# Altium integrated library RKEF400.IntLib: 1 symbol
Pins are listed as number, name and electrical type; pins without a type are passive.

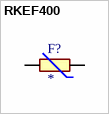
[diagram p0: symbol RKEF400]

## RKEF400
designator F?
PTC Resettable Fuse 4A(hold) 8A(trip) 60V 40A 3.7W 24s 0.014Ohm Radial 21 X 3 X 24.9mm Bag; MF: Littelfuse; MP: RKEF400; SnapEDA_Link: https://www.snapeda.com/parts/RKEF400/Ersa/view-part/?ref=snap; Package: None; Value: *; Check_prices: https://www.snapeda.com/parts/RKEF400/Ersa/view-part/?ref=eda
footprint FUSRR1015W81L2100T300H2490
pins: 1, 2